# Altium schematic symbol library ESP32_Sch_Lib.SchLib: 14 symbols
Pins are listed as number, name and electrical type; pins without a type are passive.

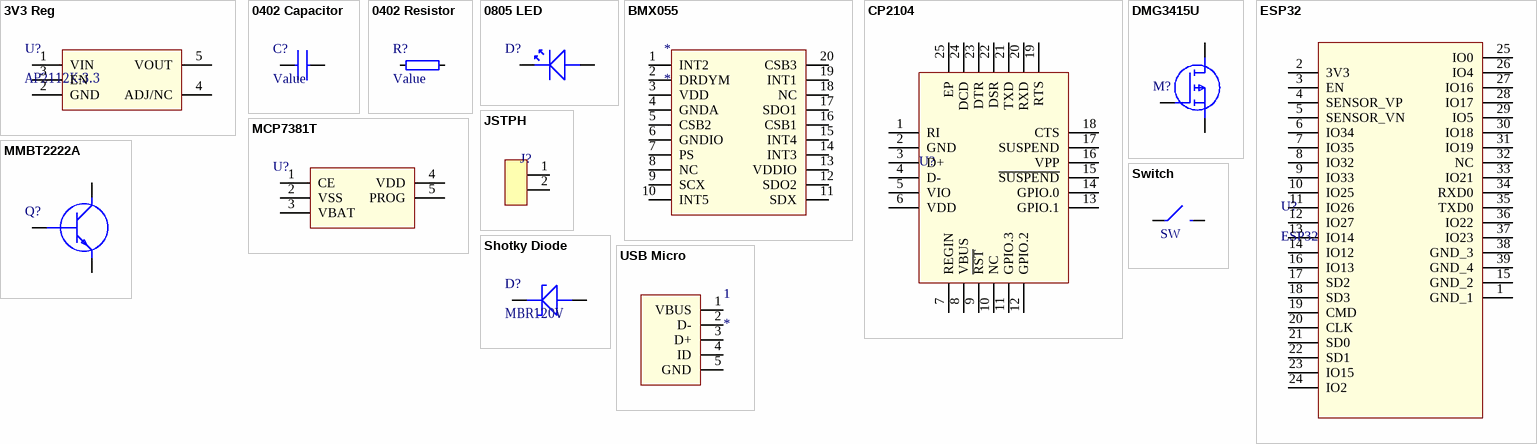
[diagram p0: symbols 3V3 Reg to USB Micro]

## 3V3 Reg
designator U?, comment ‎AP2112K-3.3
footprint 3V3 Reg
pins: 1 VIN, 2 GND, 3 EN, 4 ADJ/NC, 5 VOUT

## 0402 Capacitor
designator C?, comment Value
footprint 0402 Capacitor
pins: 1, 2

## 0402 Resistor
designator R?, comment Value
footprint 0402 Resistor
pins: 1, 2

## 0805 LED
designator D?  (value not drawn)
footprint 0805 LED
pins: 1, 2

## BMX055
designator *
footprint BMX055
pins: 1 INT2, 2 DRDYM, 3 VDD, 4 GNDA, 5 CSB2, 6 GNDIO, 7 PS, 8 NC, 9 SCX, 10 INT5, 11 SDX, 12 SDO2, 13 VDDIO, 14 INT3, 15 INT4, 16 CSB1, 17 SDO1, 18 NC, 19 INT1, 20 CSB3

## CP2104
designator U?
footprint CP2104
pins: 1 RI, 2 GND, 3 D+, 4 D-, 5 VIO, 6 VDD, 7 REGIN, 8 VBUS, 9 ~{RST}, 10 NC, 11 GPIO.3, 12 GPIO.2, 13 GPIO.1, 14 GPIO.0, 15 ~{SUSPEND}, 16 VPP, 17 SUSPEND, 18 CTS, 19 RTS, 20 RXD, 21 TXD, 22 DSR, 23 DTR, 24 DCD, 25 EP

## DMG3415U
designator M?  (value not drawn)
footprint DMG3415U
pins: 1 G, 2 S, 3 D

## ESP32
designator U?
footprint ESP32SMD
pins: 1 GND_1, 2 3V3, 3 EN, 4 SENSOR_VP, 5 SENSOR_VN, 6 IO34, 7 IO35, 8 IO32, 9 IO33, 10 IO25, 11 IO26, 12 IO27, 13 IO14, 14 IO12, 15 GND_2, 16 IO13, 17 SD2, 18 SD3, 19 CMD, 20 CLK, 21 SD0, 22 SD1, 23 IO15, 24 IO2, 25 IO0, 26 IO4, 27 IO16, 28 IO17, 29 IO5, 30 IO18, 31 IO19, 32 NC, 33 IO21, 34 RXD0, 35 TXD0, 36 IO22, 37 IO23, 38 GND_3, 39 GND_4

## JSTPH
designator J?  (value not drawn)
footprint JSTPH
pins: 1, 2

## MCP7381T
designator U?  (value not drawn)
footprint MCP73831T
pins: 1 CE, 2 VSS (power), 3 VBAT, 4 VDD (power), 5 PROG

## MMBT2222A
designator Q?  (value not drawn)
footprint MMBR2222A
pins: 1 B, 2 E, 3 C

## Shotky Diode
designator D?, comment ‎MBR120V
footprint Shotcky
pins: 1, 2

## Switch
designator SW?, comment SW
footprint Tall Switch
pins: 1, 2, 3, 4

## USB Micro
designator 1
footprint USB Micro
pins: 1 VBUS, 2 D-, 3 D+, 4 ID, 5 GND